# EAGLE library part OPAMP2 (library Project-H10)
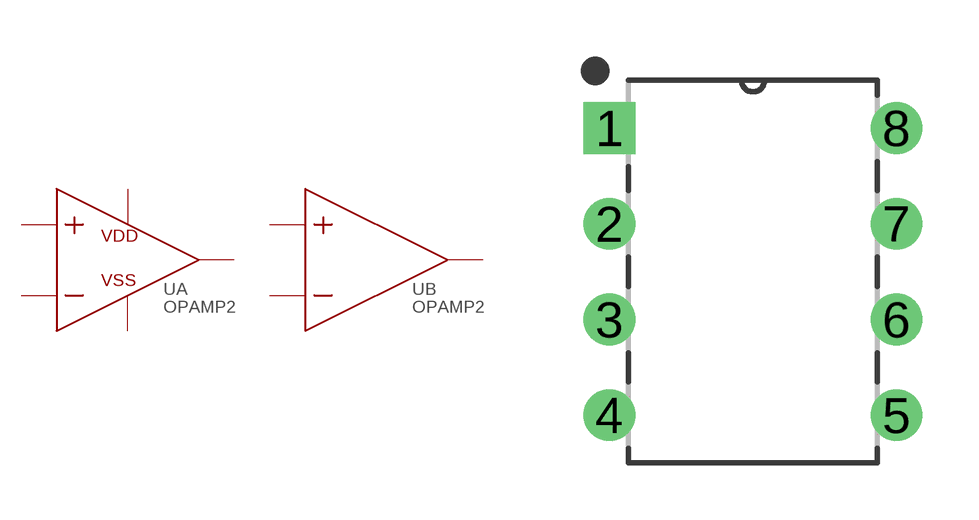
[diagram p3: symbol with the pads of P8; footprint P8]

Designator prefix U; gates A=OPAMP B=OPAMP2

## OPAMP2  [P8]
1  A:VOUT
2  A:N
3  A:P
4  A:VSS  pwr
5  B:P
6  B:N
7  B:VOUT
8  A:VDD  pwr

## Footprint P8 (pad centres in mm)
drill 0.864 pad 1.372 square: 1 -7.62,7.62
drill 0.864 pad 1.372: 2 -7.62,5.08; 3 -7.62,2.54; 4 -7.62,0; 5 0,0; 6 0,2.54; 7 0,5.08; 8 0,7.62